# EAGLE library part 74AVC4T245GU,115 (library 74AVC4T245GU_115)
IC TXRX 4BIT DUAL 3ST 16XQFN Check availability <https://pricing.snapeda.com/parts/74AVC4T245GU%2C115/Nexperia%20USA%20Inc./view-part?ref=eda>
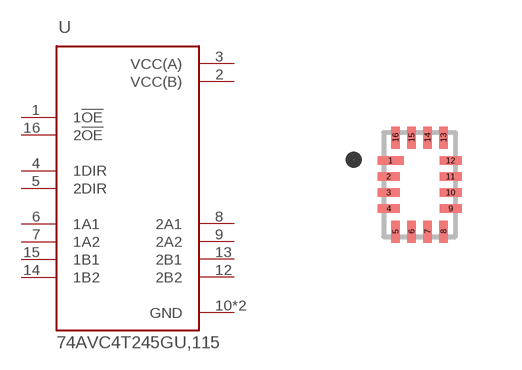
[diagram p0: symbol with the pads of NXP_74AVC4T245GU,115; footprint NXP_74AVC4T245GU,115]

Designator prefix U

## 74AVC4T245GU,115 (Availability: In Stock; Description: Translation Transceiver 2 Element 2 Bit per Element 3-State Output 16-XQFN (1.8x2.6); MF: Nexperia USA Inc.; MP: 74AVC4T245GU,115; Package: XFQFN-16 Nexperia; Price: None; Purchase-URL: https://pricing.snapeda.com/search/part/74AVC4T245GU,115/?ref=eda)  [NXP_74AVC4T245GU,115]
1  1!OE  in
2  VCC(B)  pwr
3  VCC(A)  pwr
4  1DIR  in
5  2DIR  in
6  1A1
7  1A2
8  2A1
9  2A2
10  GND  pwr
11  GND  pwr
12  2B2
13  2B1
14  1B2
15  1B1
16  2!OE  in

## Footprint NXP_74AVC4T245GU,115 (pad centres in mm)
smd 0.65 x 0.22: 1 -0.725,0.6
smd 0.55 x 0.22: 2 -0.775,0.2; 3 -0.775,-0.2; 4 -0.775,-0.6; 9 0.775,-0.6; 10 0.775,-0.2; 11 0.775,0.2; 12 0.775,0.6
smd 0.22 x 0.55: 5 -0.6,-1.175; 6 -0.2,-1.175; 7 0.2,-1.175; 8 0.6,-1.175; 13 0.6,1.175; 14 0.2,1.175; 15 -0.2,1.175; 16 -0.6,1.175